# EAGLE library part RESISTOR_4PACK (library Passive Components > Resistors > Resistor Networks & Arrays)
Resistor Packs (4 resistors) 4 x 0603 10K 1/16W - Digikey: YC164J-10KCT-ND
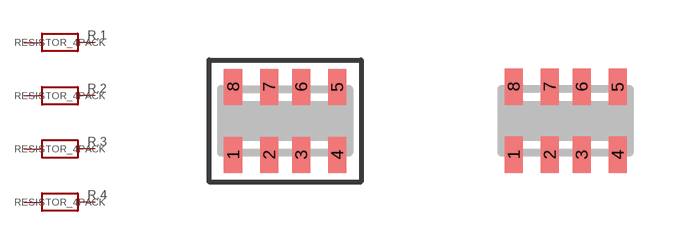
[diagram p0: symbol with the pads of RESPACK_4X0603; footprints RESPACK_4X0603, RESPACK_4X0603_NO]

Designator prefix R; gates .1=RESISTOR .2=RESISTOR .3=RESISTOR .4=RESISTOR

## RESISTOR_4PACK  [RESPACK_4X0603]
1  .1:1  pas
2  .2:1  pas
3  .3:1  pas
4  .4:1  pas
5  .4:2  pas
6  .3:2  pas
7  .2:2  pas
8  .1:2  pas

## RESISTOR_4PACK_NO  [RESPACK_4X0603_NO]
Pads as for RESPACK_4X0603

## Footprint RESPACK_4X0603 (pad centres in mm)
smd 0.45 x 0.9: 1 -1.3,-0.85; 2 -0.4,-0.85; 3 0.4,-0.85; 4 1.3,-0.85; 5 1.3,0.85; 6 0.4,0.85; 7 -0.4,0.85; 8 -1.3,0.85

## Footprint RESPACK_4X0603_NO (pad centres in mm)
smd 0.45 x 0.9: 1 -1.3,-0.85; 2 -0.4,-0.85; 3 0.4,-0.85; 4 1.3,-0.85; 5 1.3,0.85; 6 0.4,0.85; 7 -0.4,0.85; 8 -1.3,0.85